# Altium schematic symbol library MKP1848510084K2.SchLib: 1 symbol
Pins are listed as number, name and electrical type; pins without a type are passive.

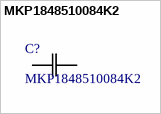
[diagram p0: symbol MKP1848510084K2]

## MKP1848510084K2
designator C?
MKP 1848 1ÂµF Â±5% 800V=; Manufacturer_Name: Vishay; Copyright: Copyright (C) 2025 Ultra Librarian. All rights reserved.; Manufacturer_Part_Number: MKP1848510084K2
footprint CAP_8510084K2_VIS
pins: 1, 2